# Altium footprint library nixie_kok.PcbLib: 31 footprints (part 1 of 2)
Each footprint in its own frame and in the unit in brackets; x right, y up, seen from the top. Pads: shape width x height; smd on the part's side, far side on the other; paste and mask are expansions set on the pad; w line width, h text height; cw(c..) or ccw(c..) is an arc to the next point about the centre after c.
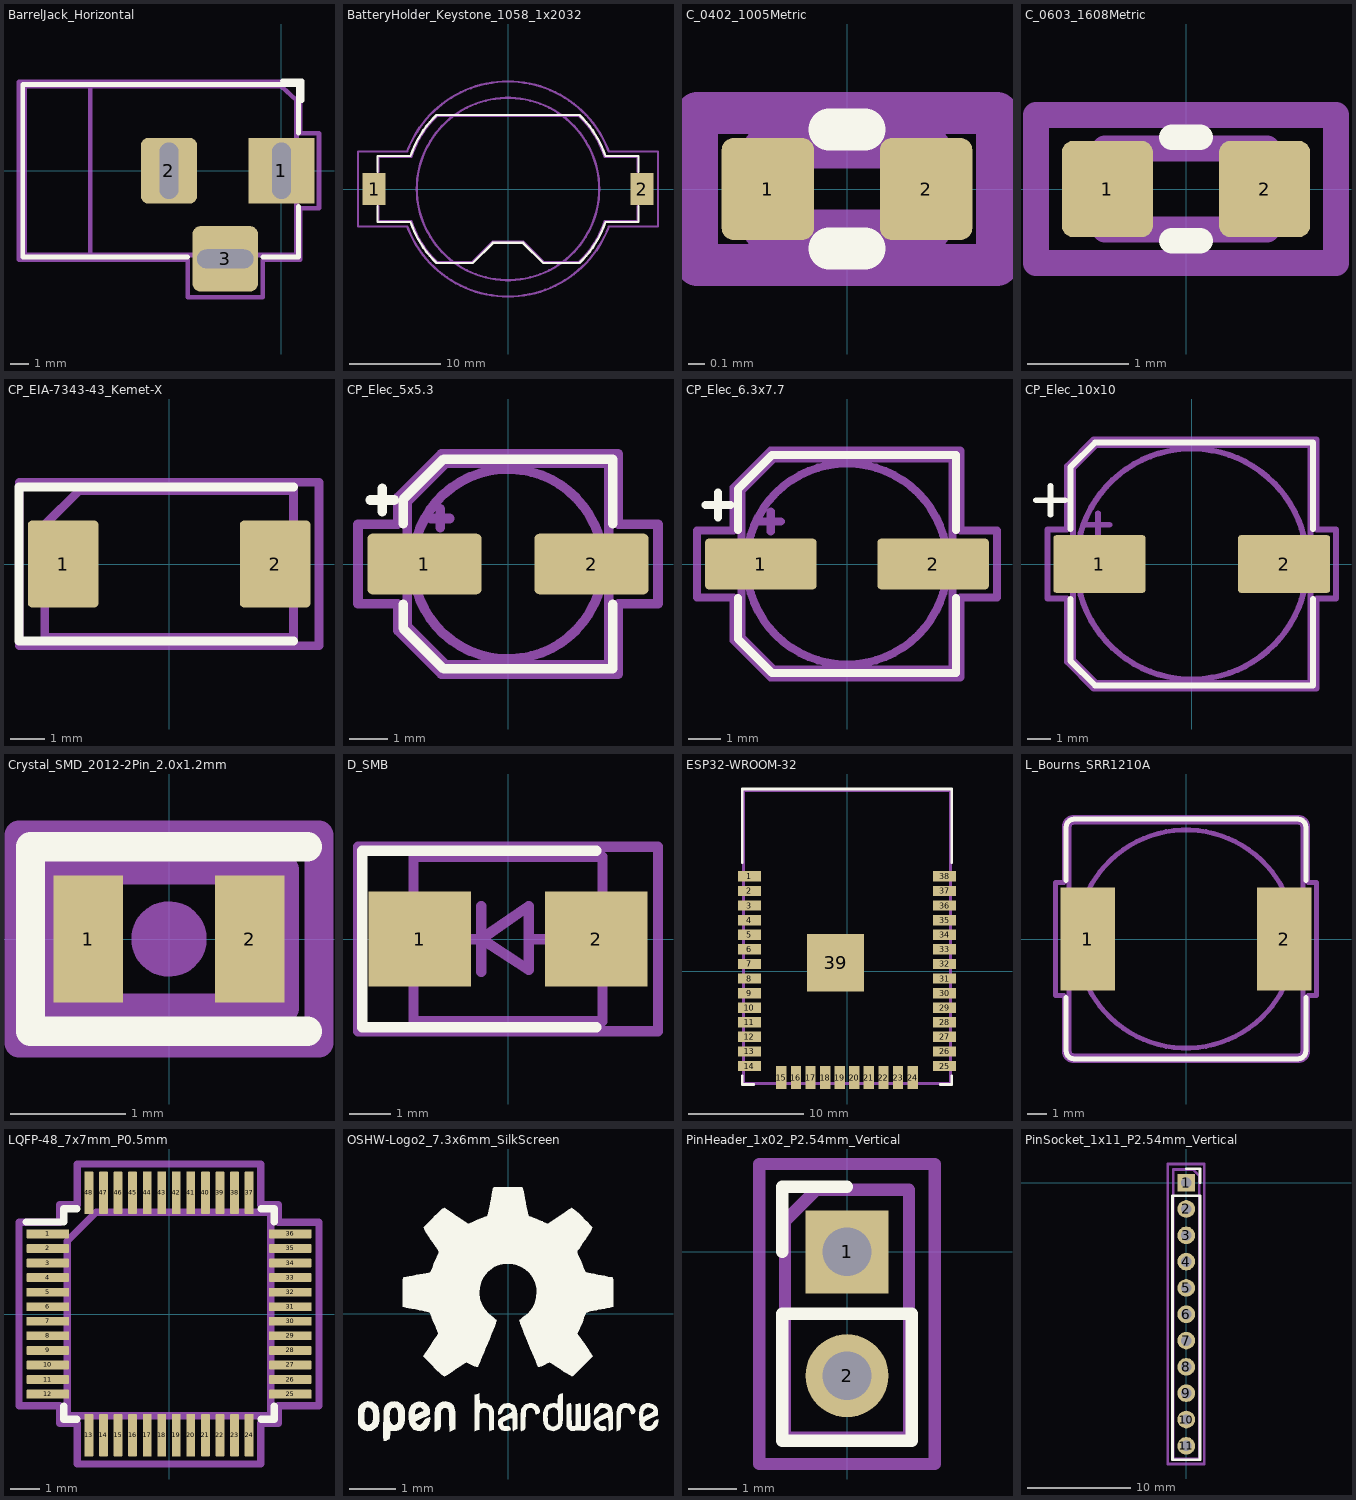
[diagram p0: the footprints below, top view; thin cyan lines are the x and y axes]

## BarrelJack_Horizontal [mm]
pads (3):
  rect 3.5x3.5 hole 3 slot 1 at 0 deg: 1(0,0)
  rrect25% 3x3.5 hole 3 slot 1 at 0 deg: 2(-6,0)
  rrect25% 3.5x3.5 hole 1 slot 3 at 0 deg: 3(-3,-4.7)
F.SilkS:
  lines w0.254: -5,-4.6 -13.8,-4.6 -13.8,4.6 0.9,4.6 0.9,2 ; -1,-4.6 0.9,-4.6 0.9,-1.9 ; 0.05,4.8 1.1,4.8 1.1,3.75
F.CrtYd:
  lines w0.254: -14,-4.75 -5,-4.75 -5,-6.75 -1,-6.75 -1,-4.75 1,-4.75 1,-2 2,-2 2,2 1,2 1,4.5 1,4.75 -14,4.75 -14,-4.75
F.Fab:
  lines w0.254: -10.2,-4.5 -10.2,4.5 ; -0.003,4.505 0.8,3.75 0.8,-4.5 -13.7,-4.5 -13.7,4.5 0,4.5
  text "'.Designator'" at -4.439,2.552 h1

## BatteryHolder_Keystone_1058_1x2032 [mm]
pads (2):
  rect 2.54x3.51 smd: 1(-14.68,0) 2(14.68,0)
F.SilkS:
  lines w0.254: -14.31,-1.9 -14.31,-3.61 -10.692,-3.61 ccw(c0,0) -7.845,-8.112 ; -14.31,1.9 -14.31,3.61 -10.692,3.61 cw(c0,0) -7.845,8.112 ; -7.847,-8.11 -3.86,-8.11 -1.66,-5.91 1.66,-5.91 3.86,-8.11 7.847,-8.11 ; -7.847,8.11 7.847,8.11 ; 7.845,-8.112 ccw(c0,0) 10.692,-3.61 14.31,-3.61 14.31,-1.9 ; 7.845,8.112 cw(c0,0) 10.692,3.61 14.31,3.61 14.31,1.9
Dwgs.User:
  circle w0.254: c0,0 r10
F.CrtYd:
  lines w0.254: -11.06,-4.11 -16.45,-4.11 -16.45,4.11 -11.06,4.11 cw(c0,0) 11.058,4.116 ; -11.058,-4.116 ccw(c0,0) 11.06,-4.11 16.45,-4.11 16.45,4.11 11.06,4.11
F.Fab:
  lines w0.254: -14.2,-1.9 -14.2,-3.5 -10.613,-3.5 ccw(c0,0) -7.803,-8 -3.9,-8 -1.7,-5.8 1.7,-5.8 3.9,-8 7.803,-8 ccw(c0,0) 10.613,-3.5 14.2,-3.5 14.2,-1.9 ; -14.2,1.9 -14.2,3.5 -10.613,3.5 cw(c0,0) -7.803,8 7.803,8 cw(c0,0) 10.613,3.5 14.2,3.5 14.2,1.9
  text "'.Designator'" at -1.439,-0.398 h1

## C_0402_1005Metric [mm]
pads (2):
  rrect25% 0.56x0.62 smd: 1(-0.48,0) 2(0.48,0)
F.SilkS:
  lines w0.254: -0.108,-0.36 0.108,-0.36 ; -0.108,0.36 0.108,0.36
F.CrtYd:
  lines w0.254: -0.91,-0.46 -0.91,0.46 0.91,0.46 0.91,-0.46 -0.91,-0.46
F.Fab:
  lines w0.254: -0.5,-0.25 -0.5,0.25 0.5,0.25 0.5,-0.25 -0.5,-0.25
  text "'.Designator'" at -0.36,-0.1 h0.25

## C_0603_1608Metric [mm]
pads (2):
  rrect25% 0.9x0.95 smd: 1(-0.775,0) 2(0.775,0)
F.SilkS:
  lines w0.254: -0.141,-0.51 0.141,-0.51 ; -0.141,0.51 0.141,0.51
F.CrtYd:
  lines w0.254: -1.48,-0.73 1.48,-0.73 1.48,0.73 -1.48,0.73 -1.48,-0.73
F.Fab:
  lines w0.254: -0.8,-0.4 0.8,-0.4 0.8,0.4 -0.8,0.4 -0.8,-0.4
  text "'.Designator'" at -0.573,-0.159 h0.4

## CP_EIA-7343-43_Kemet-X [mm]
pads (2):
  rrect12% 2.075x2.55 smd: 1(-3.113,0) 2(3.113,0)
F.SilkS:
  lines w0.254: 3.65,-2.26 -4.41,-2.26 -4.41,2.26 3.65,2.26
F.CrtYd:
  lines w0.254: -4.4,-2.4 -4.4,2.4 4.4,2.4 4.4,-2.4 -4.4,-2.4
F.Fab:
  lines w0.254: -3.65,-2.15 -3.65,1.15 -2.65,2.15 3.65,2.15 3.65,-2.15 -3.65,-2.15
  text "'.Designator'" at -1.439,-0.398 h1

## CP_Elec_5x5.3 [mm]
pads (2):
  rrect16% 3x1.6 smd: 1(-2.2,0) 2(2.2,0)
F.SilkS:
  lines w0.254: -3.625,1.685 -3,1.685 ; -3.313,1.372 -3.313,1.997 ; -2.76,-1.06 -2.76,-1.696 -1.696,-2.76 2.76,-2.76 2.76,-1.06 ; -2.76,1.06 -2.76,1.696 -1.696,2.76 2.76,2.76 2.76,1.06
F.CrtYd:
  lines w0.254: -3.95,-1.05 -3.95,1.05 -2.9,1.05 -2.9,1.75 -1.75,2.9 2.9,2.9 2.9,1.05 3.95,1.05 3.95,-1.05 2.9,-1.05 2.9,-2.9 -1.75,-2.9 -2.9,-1.75 -2.9,-1.05 -3.95,-1.05
F.Fab:
  circle w0.254: c0,0 r2.5
  lines w0.254: -2.034,1.2 -1.534,1.2 ; -1.784,0.95 -1.784,1.45 ; -2.65,-1.65 -2.65,1.65 -1.65,2.65 2.65,2.65 2.65,-2.65 -1.65,-2.65 -2.65,-1.65
  text "'.Designator'" at -1.439,-0.398 h1

## CP_Elec_6.3x7.7 [mm]
pads (2):
  rrect16% 3.5x1.6 smd: 1(-2.7,0) 2(2.7,0)
F.SilkS:
  lines w0.254: -4.437,1.847 -3.65,1.847 ; -4.044,1.454 -4.044,2.241 ; -3.41,-1.06 -3.41,-2.346 -2.346,-3.41 3.41,-3.41 3.41,-1.06 ; -3.41,1.06 -3.41,2.346 -2.346,3.41 3.41,3.41 3.41,1.06
F.CrtYd:
  lines w0.254: -4.7,-1.05 -4.7,1.05 -3.55,1.05 -3.55,2.4 -2.4,3.55 3.55,3.55 3.55,1.05 4.7,1.05 4.7,-1.05 3.55,-1.05 3.55,-3.55 -2.4,-3.55 -3.55,-2.4 -3.55,-1.05 -4.7,-1.05
F.Fab:
  circle w0.254: c0,0 r3.15
  lines w0.254: -2.705,1.33 -2.075,1.33 ; -2.39,1.015 -2.39,1.645 ; -3.3,-2.3 -3.3,2.3 -2.3,3.3 3.3,3.3 3.3,-3.3 -2.3,-3.3 -3.3,-2.3
  text "'.Designator'" at -1.439,-0.398 h1

## CP_Elec_10x10 [mm]
pads (2):
  rrect10% 4x2.5 smd: 1(-4,0) 2(4,0)
F.SilkS:
  lines w0.254: -6.75,2.76 -5.5,2.76 ; -6.125,2.135 -6.125,3.385 ; -5.26,-1.51 -5.26,-4.196 -4.196,-5.26 5.26,-5.26 5.26,-1.51 ; -5.26,1.51 -5.26,4.196 -4.196,5.26 5.26,5.26 5.26,1.51
F.CrtYd:
  lines w0.254: -6.25,-1.5 -5.4,-1.5 -5.4,-4.25 -4.25,-5.4 5.4,-5.4 5.4,-1.5 6.25,-1.5 6.25,1.5 5.4,1.5 5.4,5.4 -4.25,5.4 -5.4,4.25 -5.4,1.5 -6.25,1.5 -6.25,-1.5
F.Fab:
  circle w0.254: c0,0 r5
  lines w0.254: -4.558,1.7 -3.558,1.7 ; -4.058,1.2 -4.058,2.2 ; -5.15,-4.15 -4.15,-5.15 5.15,-5.15 5.15,5.15 -4.15,5.15 -5.15,4.15 -5.15,-4.15
  text "'.Designator'" at 1.439,0.398 h1

## Crystal_SMD_2012-2Pin_2.0x1.2mm [mm]
pads (2):
  rect 0.6x1.1 smd: 1(-0.7,0) 2(0.7,0)
F.SilkS:
  lines w0.254: 1.2,-0.8 -1.2,-0.8 -1.2,0.8 1.2,0.8
F.CrtYd:
  lines w0.254: -1.3,-0.9 -1.3,0.9 1.3,0.9 1.3,-0.9 -1.3,-0.9
F.Fab:
  lines w0.254: -1,-0.1 -0.5,-0.6 ; -1,-0.6 -1,0.6 1,0.6 1,-0.6 -1,-0.6
  text "'.Designator'" at -0.719,-0.199 h0.5
F.Adhes:
  circle w0.254: c0,0 r0.047
  circle w0.254: c0,0 r0.107
  circle w0.254: c0,0 r0.167
  circle w0.254: c0,0 r0.2

## D_SMB [mm]
pads (2):
  rect 2.5x2.3 smd: 1(-2.15,0) 2(2.15,0)
F.SilkS:
  lines w0.254: 2.15,-2.15 -3.55,-2.15 -3.55,2.15 2.15,2.15
F.CrtYd:
  lines w0.254: -3.65,-2.25 3.65,-2.25 3.65,2.25 -3.65,2.25 -3.65,-2.25
F.Fab:
  lines w0.254: -1.551,-0.001 -0.649,-0.001 ; -0.649,-0.801 -0.649,0.799 ; 0.501,-0.001 1.499,-0.001 ; -0.649,-0.001 0.501,-0.75 0.501,0.799 -0.649,-0.001 ; -2.3,-2 2.3,-2 2.3,2 -2.3,2 -2.3,-2
  text "'.Designator'" at -1.439,2.602 h1

## ESP32-WROOM-32 [mm]
pads (39):
  rect 2x0.9 smd: 1(-8.5,8.255) 2(-8.5,6.985) 3(-8.5,5.715) 4(-8.5,4.445) 5(-8.5,3.175) 6(-8.5,1.905) 7(-8.5,0.635) 8(-8.5,-0.635) 9(-8.5,-1.905) 10(-8.5,-3.175) 11(-8.5,-4.445) 12(-8.5,-5.715) 13(-8.5,-6.985) 14(-8.5,-8.255) 25(8.5,-8.255) 26(8.5,-6.985) 27(8.5,-5.715) 28(8.5,-4.445) 29(8.5,-3.175) 30(8.5,-1.905) 31(8.5,-0.635) 32(8.5,0.635) 33(8.5,1.905) 34(8.5,3.175) 35(8.5,4.445) 36(8.5,5.715) 37(8.5,6.985) 38(8.5,8.255)
  rect 0.9x2 smd: 15(-5.715,-9.255) 16(-4.445,-9.255) 17(-3.175,-9.255) 18(-1.905,-9.255) 19(-0.635,-9.255) 20(0.635,-9.255) 21(1.905,-9.255) 22(3.175,-9.255) 23(4.445,-9.255) 24(5.715,-9.255)
  rect 5x5 smd: 39(-1,0.755)
F.SilkS:
  lines w0.254: -9.12,-9.1 -9.12,-9.88 -8.12,-9.88 ; -9.12,9.445 -9.12,15.865 9.12,15.865 9.12,9.445 ; 8.12,-9.88 9.12,-9.88 9.12,-9.1
F.Fab:
  lines w0.254: -9,15.745 9,15.745 9,-9.76 -9,-9.76 -9,15.748
  text "'.Designator'" at -1.439,-0.398 h1

## L_Bourns_SRR1210A [mm]
pads (2):
  rect 2.8x5.3 smd: 1(-5.05,0) 2(5.05,0)
F.SilkS:
  lines w0.254: -6.15,-3 -6.15,-5.75 ccw(c-5.75,-5.75) -5.75,-6.15 5.75,-6.15 ccw(c5.75,-5.75) 6.15,-5.75 6.15,-3 ; -6.15,3 -6.15,5.75 cw(c-5.75,5.75) -5.75,6.15 5.75,6.15 cw(c5.75,5.75) 6.15,5.75 6.15,3
F.CrtYd:
  lines w0.254: -6.7,-2.9 -6.25,-2.9 -6.25,-5.75 ccw(c-5.75,-5.75) -5.75,-6.25 5.75,-6.25 ccw(c5.75,-5.75) 6.25,-5.75 6.25,-2.9 6.7,-2.9 6.7,2.9 6.25,2.9 6.25,5.75 ccw(c5.75,5.75) 5.75,6.25 -5.75,6.25 ccw(c-5.75,5.75) -6.25,5.75 -6.25,2.9 -6.7,2.9 -6.7,-2.9
F.Fab:
  circle w0.254: c0,0 r5.6
  lines w0.254: -4,-2 -4,2 ; 4,-2 4,2 ; -6,-5.75 ccw(c-5.75,-5.75) -5.75,-6 5.75,-6 ccw(c5.75,-5.75) 6,-5.75 6,5.75 ccw(c5.75,5.75) 5.75,6 -5.75,6 ccw(c-5.75,5.75) -6,5.75 -6,-5.75
  text "'.Designator'" at 1.439,0.398 h1

## LQFP-48_7x7mm_P0.5mm [mm]
pads (48):
  rrect25% 1.475x0.3 smd: 1(-4.163,2.75) 2(-4.163,2.25) 3(-4.163,1.75) 4(-4.163,1.25) 5(-4.163,0.75) 6(-4.163,0.25) 7(-4.163,-0.25) 8(-4.163,-0.75) 9(-4.163,-1.25) 10(-4.163,-1.75) 11(-4.163,-2.25) 12(-4.163,-2.75) 25(4.163,-2.75) 26(4.163,-2.25) 27(4.163,-1.75) 28(4.163,-1.25) 29(4.163,-0.75) 30(4.163,-0.25) 31(4.163,0.25) 32(4.163,0.75) 33(4.163,1.25) 34(4.163,1.75) 35(4.163,2.25) 36(4.163,2.75)
  rrect25% 0.3x1.475 smd: 13(-2.75,-4.163) 14(-2.25,-4.163) 15(-1.75,-4.163) 16(-1.25,-4.163) 17(-0.75,-4.163) 18(-0.25,-4.163) 19(0.25,-4.163) 20(0.75,-4.163) 21(1.25,-4.163) 22(1.75,-4.163) 23(2.25,-4.163) 24(2.75,-4.163) 37(2.75,4.163) 38(2.25,4.163) 39(1.75,4.163) 40(1.25,4.163) 41(0.75,4.163) 42(0.25,4.163) 43(-0.25,4.163) 44(-0.75,4.163) 45(-1.25,4.163) 46(-1.75,4.163) 47(-2.25,4.163) 48(-2.75,4.163)
F.SilkS:
  lines w0.254: -4.9,3.16 -3.61,3.16 -3.61,3.61 -3.16,3.61 ; -3.61,-3.16 -3.61,-3.61 -3.16,-3.61 ; 3.16,-3.61 3.61,-3.61 3.61,-3.16 ; 3.16,3.61 3.61,3.61 3.61,3.16
F.CrtYd:
  lines w0.254: -5.15,-3.15 -5.15,0 -5.15,3.15 -3.75,3.15 -3.75,3.75 -3.15,3.75 -3.15,5.15 0,5.15 3.15,5.15 3.15,3.75 3.75,3.75 3.75,3.15 5.15,3.15 5.15,0 5.15,-3.15 3.75,-3.15 3.75,-3.75 3.15,-3.75 3.15,-5.15 0,-5.15 -3.15,-5.15 -3.15,-3.75 -3.75,-3.75 -3.75,-3.15 -5.15,-3.15
F.Fab:
  lines w0.254: -3.5,-3.5 -3.5,2.5 -2.5,3.5 3.5,3.5 3.5,-3.5 -3.5,-3.5
  text "'.Designator'" at -1.439,-0.398 h1

## OSHW-Logo2_7.3x6mm_SilkScreen [mm]
F.SilkS:
  drawing of 13 lines, arcs and shapes, not listed

## PinHeader_1x02_P2.54mm_Vertical [mm]
pads (2):
  rect 1.7x1.7 hole 1: 1(0,0)
  rrect100% 1.7x1.7 hole 1: 2(0,-2.54)
F.SilkS:
  lines w0.254: -1.33,0 -1.33,1.33 0,1.33 ; -1.33,-3.87 -1.33,-1.27 1.33,-1.27 1.33,-3.87 -1.33,-3.87
F.CrtYd:
  lines w0.254: -1.8,-4.35 -1.8,1.8 1.8,1.8 1.8,-4.35 -1.8,-4.35
F.Fab:
  lines w0.254: -1.27,-3.81 -1.27,0.635 -0.635,1.27 1.27,1.27 1.27,-3.81 -1.27,-3.81
  text "'.Designator'" at 0.398,-2.709 h1

## PinSocket_1x11_P2.54mm_Vertical [mm]
pads (11):
  rect 1.7x1.7 hole 1: 1(0,0)
  rrect100% 1.7x1.7 hole 1: 2(0,-2.54) 3(0,-5.08) 4(0,-7.62) 5(0,-10.16) 6(0,-12.7) 7(0,-15.24) 8(0,-17.78) 9(0,-20.32) 10(0,-22.86) 11(0,-25.4)
F.SilkS:
  lines w0.254: 0,1.33 1.33,1.33 1.33,0 ; -1.33,-26.73 -1.33,-1.27 1.33,-1.27 1.33,-26.73 -1.33,-26.73
F.CrtYd:
  lines w0.254: -1.8,-27.15 -1.8,1.8 1.75,1.8 1.75,-27.15 -1.8,-27.15
F.Fab:
  lines w0.254: -1.27,-26.67 -1.27,1.27 0.635,1.27 1.27,0.635 1.27,-26.67 -1.27,-26.67
  text "'.Designator'" at 0.398,-14.139 h1